# Altium footprint library C0201.PcbLib: 1 footprints
Each footprint in its own frame and in the unit in brackets; x right, y up, seen from the top. Pads: shape width x height; smd on the part's side, far side on the other; paste and mask are expansions set on the pad; w line width, h text height; cw(c..) or ccw(c..) is an arc to the next point about the centre after c.
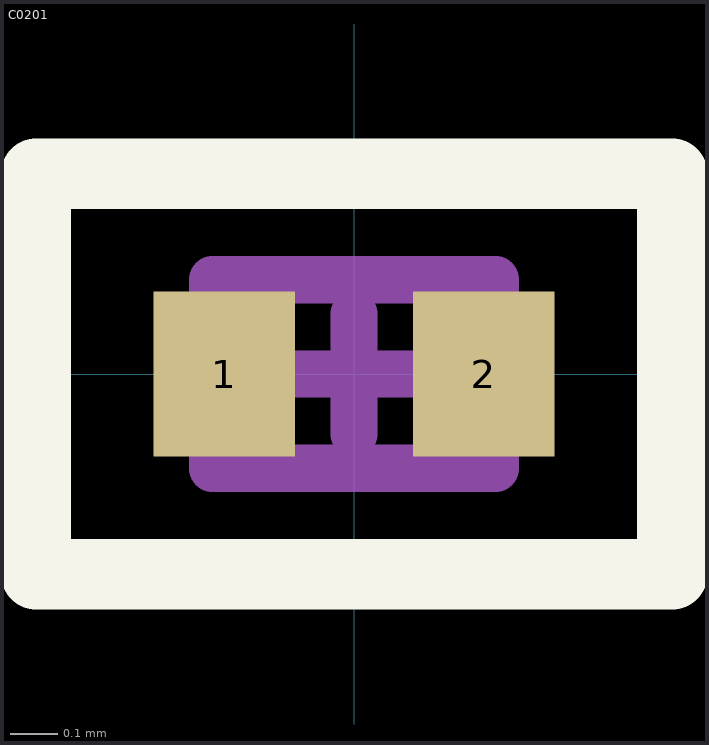
[diagram p0: the footprint, top view; thin cyan lines are the x and y axes]

## C0201 [mm]
pads (2):
  rect 0.3x0.35 smd paste+0 mask+0.102: 1(-0.275,0) 2(0.275,0)
Top Overlay:
  lines w0.15: -0.675,-0.425 -0.675,0.425 ; -0.675,-0.425 0.675,-0.425 0.675,0.425 -0.675,0.425
Top Designator:
  text ".Designator" at -7.618,-0.508 h1.52
Mechanical 13:
  lines w0.1: -0.3,-0.2 -0.3,0.2 0.3,0.2 0.3,-0.2 -0.3,-0.2
Mechanical 15:
  lines w0.1: -0.127,0 0,0 ; 0,-0.127 0,0 ; 0,0.127 0,0 ; 0.127,0 0,0
3D body "CAP0201.stp": height 0.33, standoff 0, extent -0.3,-0.15 0.3,0.15